# Altium footprint library TE_173862-1.PcbLib: 1 footprints
Each footprint in its own frame and in the unit in brackets; x right, y up, seen from the top. Pads: shape width x height; smd on the part's side, far side on the other; paste and mask are expansions set on the pad; w line width, h text height; cw(c..) or ccw(c..) is an arc to the next point about the centre after c.
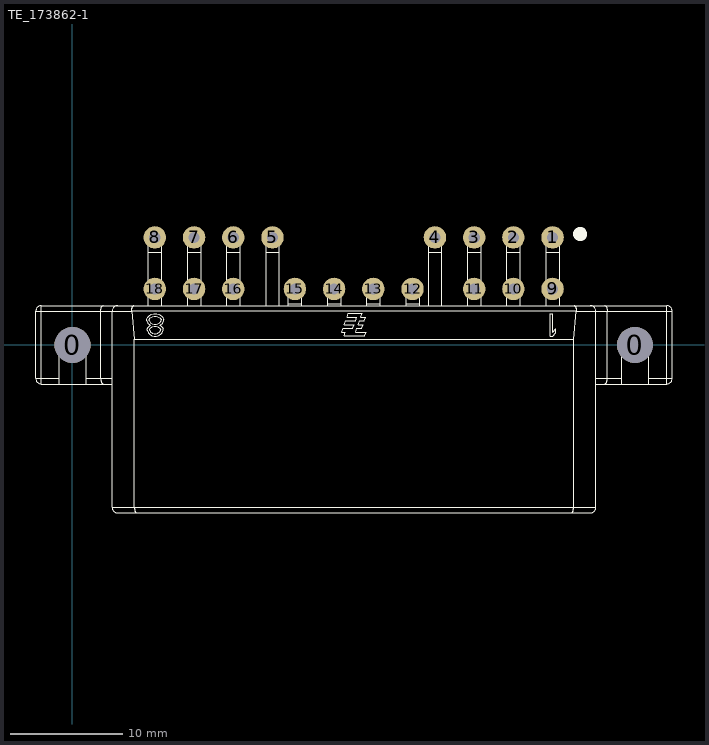
[diagram p0: the footprint, top view; thin cyan lines are the x and y axes]

## TE_173862-1 [mm] "070 MULTILOCK CAP ASSY 30P"
height 15.8
pads (20):
  round 3.2 hole 3.2: 0(0,0) 0(50.2,0)
  round 2 hole 1: 1(42.85,9.6) 2(39.35,9.6) 3(35.85,9.6) 4(32.35,9.6) 5(17.85,9.6) 6(14.35,9.6) 7(10.85,9.6) 8(7.35,9.6) 9(42.85,5) 10(39.35,5) 11(35.85,5) 12(30.35,5) 13(26.85,5) 14(23.35,5) 15(19.85,5) 16(14.35,5) 17(10.85,5) 18(7.35,5)
Top Overlay:
  drawing of 2201 lines, arcs and shapes, not listed
3D body "c-173862-4-y-3d.stp": height 15.98, standoff -3.9, extent -3.333,-14.975 53.467,9.945